# Altium schematic symbol library cambien.SchLib: 1 symbol
Pins are listed as number, name and electrical type; pins without a type are passive.

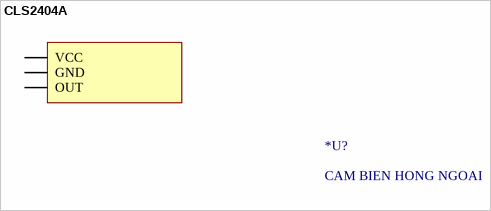
[diagram p0: symbol CLS2404A]

## CLS2404A
designator *U?, comment CAM BIEN HONG NGOAI
pins: 1 VCC, 2 GND, 3 OUT